# Altium schematic symbol library R.SchLib: 50 symbols
Pins are listed as number, name and electrical type; pins without a type are passive.

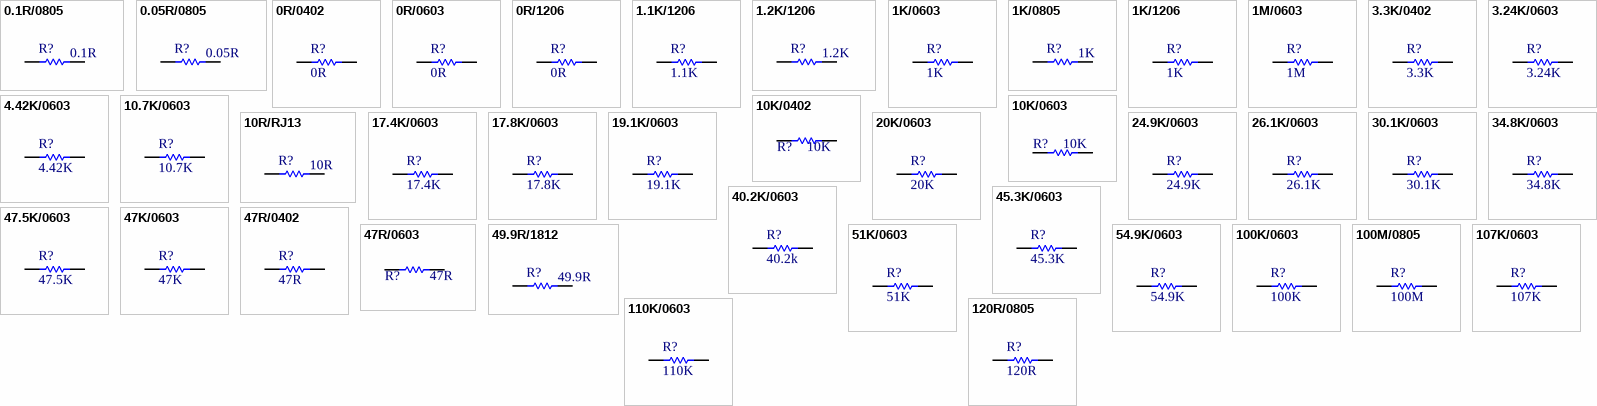
[diagram p0: symbols 0.1R/0805 to 120R/0805]

## 0.1R/0805
designator R?, comment 0.1R
阻值（欧姆） 0.1Ω / 精度 ±1% / 功率 1/3W / 温度系数 ±100ppm/°C; Manufacturer: UNI-ROYAL(厚声); A_Manufacturer: 718; Code: HP05W3F100LT5E; CompType: Resistor; A_ComType: RM型片式膜固定电阻器; DistributorCode: C270842; Package: 0805; A_Code: -
footprint S0805R
pins: 1, 2

## 0.05R/0805
designator R?, comment 0.05R
阻值（欧姆） 0.05Ω / 精度 ±1% / 功率 1/4W / 温度系数 ±400ppm/°C; Manufacturer: UNI-ROYAL(厚声); A_Manufacturer: 718; Code: CS05W4F500MT5E; CompType: Resistor; A_ComType: RM型片式膜固定电阻器; DistributorCode: C270863; Package: 0805; A_Code: -
footprint S0805R
pins: 1, 2

## 0R/0402
designator R?, comment 0R
精度 ±1% / 功率 1/16W C / 阻值 0Ω; Manufacturer: FH(风华); A_Manufacturer: 718; Code: RC-02000FT; A_Code: J-RM1005(0402)-K-B-0R-F; CompType: Resistor; A_ComType: RM型片式膜固定电阻器; DistributorCode: C140225; Package: 0402
footprint S0402R
pins: 1, 2

## 0R/0603
designator R?, comment 0R
精度 ±1% / 阻值 0Ω / 功率 0.1W; Manufacturer: FH(风华); A_Manufacturer: 718; Code: RS-03000FT; A_Code: J-RM1608(0603)-K-B-0R-F; CompType: Resistor; A_ComType: RM型片式膜固定电阻器; DistributorCode: C136582; Package: 0603
footprint S0603R (Footprint not found)
pins: 1, 2

## 0R/1206
designator R?, comment 0R
功率 0.25W / 精度 ±1% / 温度系数 ±100ppm/℃ / 阻值 1.1kΩ; Manufacturer: FH(风华); A_Manufacturer: 718; Code: RS-06000FT; A_Code: J-RM3216(1206)-K-B-0R-F; CompType: Resistor; A_ComType: RM型片式膜固定电阻器; DistributorCode: C140060; Package: 1206
footprint S0603R (Footprint not found)
footprint S1206R (1206 from SM-752 data)
pins: 1, 2

## 1.1K/1206
designator R?, comment 1.1K
功率 0.25W / 精度 ±1% / 温度系数 ±100ppm/℃ / 阻值 1.1kΩ; Manufacturer: FH(风华); A_Manufacturer: 718; Code: RS-06K1101FT; A_Code: J-RM3216(1206)-K-B-1.1K-F; CompType: Resistor; A_ComType: RM型片式膜固定电阻器; DistributorCode: C322820; Package: 1206
footprint S0603R (Footprint not found)
footprint S1206R (1206 from SM-752 data)
pins: 1, 2

## 1.2K/1206
designator R?, comment 1.2K
功率 0.25W / 精度 ±1% / 温度系数 ±100ppm/℃; Manufacturer: FH(风华); A_Manufacturer: 718; Code: RS-06K1201FT; A_Code: J-RM3216(1206)-K-B-1.2K-F; CompType: Resistor; A_ComType: RM型片式膜固定电阻器; DistributorCode: C88612; Package: 1206
footprint S0603R (Footprint not found)
footprint S1206R (1206 from SM-752 data)
pins: 1, 2

## 1K/0603
designator R?, comment 1K
精度 ±1% / 温度系数 ±100ppm/℃ / 阻值 1kΩ / 功率 0.1W; Manufacturer: FH(风华); A_Manufacturer: 718; Code: RS-03K1001FT; A_Code: J-RM1608(0603)-K-B-1K-F; CompType: Resistor; A_ComType: RM型片式膜固定电阻器; DistributorCode: C115325; Package: 0603
footprint S0603R
pins: 1, 2

## 1K/0805
designator R?, comment 1K
精度 ±1% / 温度系数 ±100ppm/℃ / 阻值 1kΩ / 功率 0.125W; Manufacturer: FH(风华); A_Manufacturer: 718; Code: RS-05K1001FT; A_Code: J-RM2012(0805)-K-B-1K-F; CompType: Resistor; A_ComType: RM型片式膜固定电阻器; DistributorCode: C115316; Package: 0805
footprint S0805R
pins: 1, 2

## 1K/1206
designator R?, comment 1K
功率 0.25W / 精度 ±1% / 温度系数 ±100ppm/℃ / 阻值 1kΩ; Manufacturer: FH(风华); A_Manufacturer: 718; Code: RS-06K1001FT; A_Code: J-RM3216(1206)-K-B-1K-F; CompType: Resistor; A_ComType: RM型片式膜固定电阻器; DistributorCode: C167634; Package: 1206
footprint S1206R (1206 from SM-752 data)
pins: 1, 2

## 1M/0603
designator R?, comment 1M
阻值 1MΩ / 精度 ±1% / 温度系数 ±100ppm/℃ / 功率 0.1W /; Manufacturer: FH(风华); A_Manufacturer: 718; Code: RS-03K1004FT; A_Code: J-RM1608(0603)-K-B-1M-F; CompType: Resistor; A_ComType: RM型片式膜固定电阻器; DistributorCode: C136593; Package: 0603
footprint S0603R
pins: 1, 2

## 3.3K/0402
designator R?, comment 3.3K
阻值 3.3kΩ / 精度 ±1% / 温度系数 ±200ppm/℃ / 功率 1/16W; Manufacturer: FH(风华); A_Manufacturer: 718; Code: RC-02W3301FT; A_Code: J-RM1005(0402)-K-B-3.3K-F; CompType: Resistor; A_ComType: RM型片式膜固定电阻器; DistributorCode: C310224; Package: 0402
footprint S0402R
pins: 1, 2

## 3.24K/0603
designator R?, comment 3.24K
精度 ±1% / 阻值 3.24kΩ / 温度系数 ±100ppm/℃ / 功率 0.1W; Manufacturer: FH(风华); A_Manufacturer: 718; Code: RS-03K3241FT; A_Code: J-RM1608(0603)-K-B-3.24K-F; CompType: Resistor; A_ComType: RM型片式膜固定电阻器; DistributorCode: C140102; Package: 0603
footprint S0603R
pins: 1, 2

## 4.42K/0603
designator R?, comment 4.42K
精度 ±1% / 阻值 4.42kΩ / 温度系数 ±100ppm/℃ / 功率 0.1W; Manufacturer: FH(风华); A_Manufacturer: 718; Code: RS-03K4421FT; A_Code: J-RM1608(0603)-K-B-4.42K-F; CompType: Resistor; A_ComType: RM型片式膜固定电阻器; DistributorCode: C321913; Package: 0603
footprint S0603R
pins: 1, 2

## 10.7K/0603
designator R?, comment 10.7K
精度 ±1% / 温度系数 ±100ppm/℃ / 阻值 10.7kΩ / 功率 0.1W; Manufacturer: FH(风华); A_Manufacturer: 718; Code: RS-03K1072FT; A_Code: J-RM1608(0603)-K-B-10.7K-F; CompType: Resistor; DistributorCode: C321678; Package: 0603
footprint S0603R (Footprint not found)
pins: 1, 2

## 10K/0402
designator R?, comment 10K
精度 ±1% / 温度系数 ±200ppm/℃ / 功率 1/16W / 阻值 10kΩ; Manufacturer: FH(风华); A_Manufacturer: 718; Code: RC-02W1002FT; A_Code: J-RM1005(0402)-K-B-10K-F; CompType: Resistor; A_ComType: RM型片式膜固定电阻器; DistributorCode: C258091; Package: 0402
footprint S0402R
pins: 1, 2

## 10K/0603
designator R?, comment 10K
精度 ±1% / 温度系数 ±100ppm/℃ / 阻值 10kΩ / 功率 0.1W; Manufacturer: FH(风华); A_Manufacturer: 718; Code: RS-03K1002FT; A_Code: J-RM1608(0603)-K-B-10K-F; CompType: Resistor; A_ComType: RM型片式膜固定电阻器; DistributorCode: C115324; Package: 0603
footprint S0603R
pins: 1, 2

## 10R/RJ13
designator R?, comment 10R
精度 ±1% / 温度系数 ±100ppm/℃ / 阻值 10Ω / 功率 0.167W; Manufacturer: 718; A_Code: J-RJ13-0.25W-10Ω-±1%-±100×10-6/K - SJ/T10775-2000; CompType: Resistor; A_ComType: RJ13型金属膜固定电阻器; Code: -; DistributorCode: -; Package: RJ13; A_Manufacturer: 718
footprint Axial-RJ13-1
pins: 1, 2

## 17.4K/0603
designator R?, comment 17.4K
精度 ±1% / 温度系数 ±100ppm/℃ / 阻值 17.4kΩ / 功率 0.1W; Manufacturer: FH(风华); A_Manufacturer: 718; Code: RS-03K1742FT; A_Code: J-RM1608(0603)-K-B-17.4K-F; CompType: Resistor; DistributorCode: C304711; Package: 0603
footprint S0603R (Footprint not found)
pins: 1, 2

## 17.8K/0603
designator R?, comment 17.8K
精度 ±1% / 温度系数 ±100ppm/℃ / 功率 0.1W; Manufacturer: FH(风华); A_Manufacturer: 718; Code: RS-03K1782FT; A_Code: J-RM1608(0603)-K-B-17.8K-F; CompType: Resistor; DistributorCode: C310271; Package: 0603
footprint S0603R (Footprint not found)
pins: 1, 2

## 19.1K/0603
designator R?, comment 19.1K
精度 ±1% / 阻值 19.1kΩ / 温度系数 ±100ppm/℃ / 功率 0.1W; Manufacturer: FH(风华); A_Manufacturer: 718; Code: RS-03K1912FT; A_Code: J-RM1608(0603)-K-B-19.1K-F; A_ComType: RM型片式膜固定电阻器; CompType: Resistor; DistributorCode: C321770; Package: 0603
footprint S0603R (Footprint not found)
pins: 1, 2

## 20K/0603
designator R?, comment 20K
精度 ±1% / 温度系数 ±100ppm/℃ / 阻值 20kΩ / 功率 0.1W; Manufacturer: FH(风华); A_Manufacturer: 718; Code: RS-03K2002FT; A_Code: J-RM1608(0603)-K-B-20K-F; CompType: Resistor; A_ComType: RM型片式膜固定电阻器; DistributorCode: C136589; Package: 0603
footprint S0603R (Footprint not found)
pins: 1, 2

## 24.9K/0603
designator R?, comment 24.9K
精度 ±1% / 温度系数 ±100ppm/℃ / 阻值 24.9kΩ / 功率 0.1W; Manufacturer: FH(风华); A_Manufacturer: 718; Code: RS-03K2492FT; A_Code: J-RM1608(0603)-K-B-24.9K-F; CompType: Resistor; DistributorCode: C321809; Package: 0603
footprint S0603R (Footprint not found)
pins: 1, 2

## 26.1K/0603
designator R?, comment 26.1K
精度 ±1% / 温度系数 ±100ppm/℃ / 功率 0.1W / 阻值 26.1kΩ; Manufacturer: FH(风华); A_Manufacturer: 718; Code: RS-03K2612FT; A_Code: J-RM1608(0603)-K-B-26.1K-F; CompType: Resistor; DistributorCode: C321818; Package: 0603
footprint S0603R (Footprint not found)
pins: 1, 2

## 30.1K/0603
designator R?, comment 30.1K
精度 ±1% / 温度系数 ±100ppm/℃ / 阻值 30.1kΩ / 功率 0.1W; Manufacturer: FH(风华); A_Manufacturer: 718; Code: RS-03K3012FT; A_Code: J-RM1608(0603)-K-B-30.1K-F; CompType: Resistor; A_ComType: RM型片式膜固定电阻器; DistributorCode: C321843; Package: 0603
footprint S0603R (Footprint not found)
pins: 1, 2

## 34.8K/0603
designator R?, comment 34.8K
精度 ±1% / 阻值 34.8kΩ / 温度系数 ±100ppm/℃ / 功率 0.1W; Manufacturer: FH(风华); A_Manufacturer: 718; Code: RS-03K3482FT; A_Code: J-RM1608(0603)-K-B-34.8K-F; CompType: Resistor; DistributorCode: C321868; Package: 0603
footprint S0603R (Footprint not found)
pins: 1, 2

## 40.2K/0603
designator R?, comment 40.2k
精度 ±1% / 阻值 40.2kΩ / 温度系数 ±100ppm/℃ / 功率 0.1W; Manufacturer: FH(风华); A_Manufacturer: 718; Code: RS-03K4022FT; A_Code: J-RM1608(0603)-K-B-40.2K-F; CompType: Resistor; A_ComType: RM型片式膜固定电阻器; DistributorCode: C286588; Package: 0603
footprint S0603R (Footprint not found)
pins: 1, 2

## 45.3K/0603
designator R?, comment 45.3K
精度 ±1% / 温度系数 ±100ppm/℃ / 功率 0.1W /; Manufacturer: FH(风华); A_Manufacturer: 718; Code: RS-03K4532FT; A_Code: J-RM1608(0603)-K-B-45.3K-F; CompType: Resistor; DistributorCode: C304756; Package: 0603
footprint S0603R (Footprint not found)
pins: 1, 2

## 47.5K/0603
designator R?, comment 47.5K
精度 ±1% / 阻值 47.5kΩ / 温度系数 ±100ppm/℃ / 功率 0.1W; Manufacturer: FH(风华); A_Manufacturer: 718; Code: RS-03K4752FT; A_Code: J-RM1608(0603)-K-B-47.5K-F; CompType: Resistor; A_ComType: RM型片式膜固定电阻器; DistributorCode: C321924; Package: 0603
footprint S0603R (Footprint not found)
pins: 1, 2

## 47K/0603
designator R?, comment 47K
阻值 47kΩ / 精度 ±1% / 温度系数 ±100ppm/℃ / 功率 0.1W /; Manufacturer: FH(风华); A_Manufacturer: 718; Code: RS-03K4702FT; A_Code: J-RM1608(0603)-K-B-47K-F; CompType: Resistor; A_ComType: RM型片式膜固定电阻器; DistributorCode: C136590; Package: 0603
footprint S0603R (Footprint not found)
pins: 1, 2

## 47R/0402
designator R?, comment 47R
功率 1/16W / 精度 ±1% / 温度系数 ±200ppm/℃ / 阻值 47Ω; Manufacturer: FH(风华); A_Manufacturer: 718; Code: RC-02W47R0FT; A_Code: J-RM1005(0402)-K-B-47R-F; CompType: Resistor; A_ComType: RM型片式膜固定电阻器; DistributorCode: C304619; Package: 0402
footprint S0402R1
pins: 1, 2

## 47R/0603
designator R?, comment 47R
精度 ±1% / 温度系数 ±100ppm/℃ / 阻值 47Ω / 功率 0.1W; Manufacturer: FH(风华); A_Manufacturer: 718; Code: RS-03K47R0FT; A_Code: J-RM1608(0603)-K-B-47R-F; CompType: Resistor; A_ComType: RM型片式膜固定电阻器; DistributorCode: C140087; Package: 0603
footprint S0603R (Footprint not found)
pins: 1, 2

## 49.9R/1812
designator R?, comment 49.9R
精度 ±1% / 功率 0.75W / 温度系数 ±100ppm/℃ / 阻值 49.9Ω; Manufacturer: UNI-ROYAL(厚声); A_Manufacturer: 718; Code: 181207F499JT4E; CompType: Resistor; A_ComType: RM型片式膜固定电阻器; DistributorCode: C422079; Package: 0805; A_Code: -
footprint R1812 (Chip Resistor, Body 180x120mil (4.5x3.2mm))
pins: 1, 2

## 51K/0603
designator R?, comment 51K
阻值 51kΩ / 精度 ±1% / 温度系数 ±100ppm/℃ / 功率 0.1W; Manufacturer: FH(风华); A_Manufacturer: 718; Code: RS-03K5102FT; A_Code: J-RM1608(0603)-K-B-51K-F; CompType: Resistor; A_ComType: RM型片式膜固定电阻器; DistributorCode: C95329; Package: 0603
footprint S0603R
pins: 1, 2

## 54.9K/0603
designator R?, comment 54.9K
精度 ±1% / 温度系数 ±100ppm/℃ / 功率 0.1W; Manufacturer: FH(风华); A_Manufacturer: 718; Code: RS-03K5492FT; A_Code: J-RM1608(0603)-K-B-54.9K-F; CompType: Resistor; A_ComType: RM型片式膜固定电阻器; DistributorCode: C321944; Package: 0603
footprint S0603R
pins: 1, 2

## 100K/0603
designator R?, comment 100K
精度 ±1% / 阻值 100kΩ / 温度系数 ±100ppm/℃ / 功率 0.1W; Manufacturer: FH(风华); A_Manufacturer: 718; Code: RS-03K1003FT; A_Code: J-RM1608(0603)-K-B-100K-F; CompType: Resistor; A_ComType: RM型片式膜固定电阻器; DistributorCode: C115320; Package: 0603
footprint S0603R
pins: 1, 2

## 100M/0805
designator R?, comment 100M
精度 ±1% / 温度系数 ±100ppm/℃ / 功率 0.125W; Manufacturer: UNI-ROYAL(厚声); A_Manufacturer: 718; Code: 0805W8F1006T5E; A_Code: J-RM2012(0805)-K-B-100M-F; CompType: Resistor; DistributorCode: C169373; Package: 0805
footprint S0805R
pins: 1, 2

## 107K/0603
designator R?, comment 107K
精度 ±1% / 温度系数 ±100ppm/℃ / 功率 0.1W; Manufacturer: FH(风华); A_Manufacturer: 718; Code: RS-03K1073FT; A_Code: J-RM1608(0603)-K-B-107K-F; CompType: Resistor; A_ComType: RM型片式膜固定电阻器; DistributorCode: C321679; Package: 0603
footprint S0603R (Footprint not found)
pins: 1, 2

## 110K/0603
designator R?, comment 110K
精度 ±1% / 温度系数 ±100ppm/℃ / 功率 0.1W / 阻值 110kΩ; Manufacturer: FH(风华); A_Manufacturer: 718; Code: RS-03K1103FT; A_Code: J-RM1608(0603)-K-B-110K-F; CompType: Resistor; A_ComType: RM型片式膜固定电阻器; DistributorCode: C304689; Package: 0603
footprint S0603R (Footprint not found)
pins: 1, 2

## 120R/0805
designator R?, comment 120R
精度 ±1% / 温度系数 ±100ppm/℃ / 阻值 120Ω / 功率 0.125W; Manufacturer: FH(风华); A_Manufacturer: 718; Code: RS-05K1200FT; A_Code: J-RM2012(0805)-K-B-120R-F; CompType: Resistor; A_ComType: RM型片式膜固定电阻器; DistributorCode: C139926; Package: 0805
footprint S0805R
pins: 1, 2

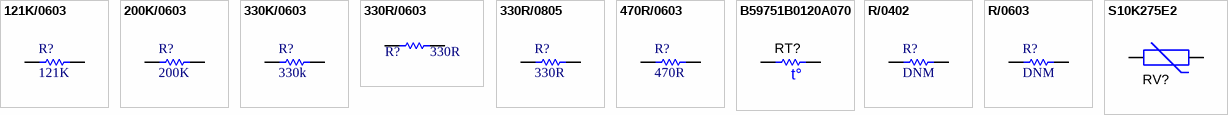
[diagram p1: symbols 121K/0603 to S10K275E2]

## 121K/0603
designator R?, comment 121K
精度 ±1% / 阻值 121kΩ / 温度系数 ±100ppm/℃ / 功率 0.1W; Manufacturer: FH(风华); A_Manufacturer: 718; Code: RS-03K1213FT; A_Code: J-RM1608(0603)-K-B-121K-F; CompType: Resistor; DistributorCode: C321700; Package: 0603
footprint S0603R (Footprint not found)
pins: 1, 2

## 200K/0603
designator R?, comment 200K
精度 ±1% / 温度系数 ±100ppm/℃ / 功率 0.1W / 阻值 200kΩ; Manufacturer: FH(风华); A_Manufacturer: 718; Code: RS-03K2003FT; A_Code: J-RM1608(0603)-K-B-200K-F; CompType: Resistor; DistributorCode: C95331; Package: 0603
footprint S0603R (Footprint not found)
pins: 1, 2

## 330K/0603
designator R?, comment 330k
精度 ±1% / 温度系数 ±100ppm/℃ / 功率 0.1W; Manufacturer: FH(风华); A_Manufacturer: 718; Code: RS-03K3303FT; A_Code: J-RM1608(0603)-K-B-330K-F; CompType: Resistor; DistributorCode: C286584; Package: 0603
footprint S0603R (Footprint not found)
pins: 1, 2

## 330R/0603
designator R?, comment 330R
精度 ±1% / 温度系数 ±100ppm/℃ / 阻值 330Ω / 功率 0.1W; Manufacturer: FH(风华); A_Manufacturer: 718; Code: RS-03K3300FT; A_Code: J-RM1608(0603)-K-B-330R-F; CompType: Resistor; A_ComType: RM型片式膜固定电阻器; DistributorCode: C125768; Package: 0603
footprint S0603R (Footprint not found)
pins: 1, 2

## 330R/0805
designator R?, comment 330R
精度 ±1% / 温度系数 ±100ppm/℃ / 功率 0.125W; Manufacturer: FH(风华); A_Manufacturer: 718; A_Code: J-RM2012(0805)-K-B-330R-F; CompType: Resistor; A_ComType: RM型片式膜固定电阻器; Code: RS-05K3300FT; DistributorCode: C154442; Package: 0805
footprint S0805R
pins: 1, 2

## 470R/0603
designator R?, comment 470R
精度 ±1% / 温度系数 ±100ppm/℃ / 功率 0.1W; Manufacturer: FH(风华); A_Manufacturer: 718; Code: RS-03K4700FT; A_Code: J-RM1608(0603)-K-B-470R-F; CompType: Resistor; A_ComType: RM型片式膜固定电阻器; DistributorCode: C116694; Package: 0603
footprint S0603R (Footprint not found)
pins: 1, 2

## B59751B0120A070
designator RT?, comment B59751C0120A070  (value not drawn)
Thermistor NTC, 50 ohm, 25%, D13xH18mm; Manufacturer: TDK; Value: 50; Tolerance_%: 25; TaMin_C: -40; TaMax_C: 125; U/M: EA; CompType: ThermistorNTC; SymbolVersion: 2008-11-25; PartNumber: B59751C0120A070; Series: B597; PackageReference: D13xH18mm; MountType: TH; RoHS: Y; ComponentLink1Description: Datasheet link; ComponentLink1URL: https://www.tdk-electronics.tdk.com/inf/55/db/PTC/PTC_ICL_OC_Leaded_260V_1000V.pdf; Published: 2009-09-22; Publisher: Texas Instruments; LatestRevisionDate: 2015-09-01; Supplier 1: Digi-Key; Supplier Part Number 1: 495-7219-ND; Supplier 2: Mouser; Supplier Part Number 2: 871-B59751C0120A070; Supplier 3: Farnell; Supplier Part Number 3: 2112820
footprint TDK_B751
pins: 1, 2
text: t°

## R/0402
designator R?, comment DNM
Manufacturer: FH(风华); A_Manufacturer: 718; CompType: Resistor; A_ComType: RM型片式膜固定电阻器; Code: -; DistributorCode: -; Package: 0402; A_Code: -
footprint S0402R
pins: 1, 2

## R/0603
designator R?, comment DNM
Manufacturer: FH(风华); A_Manufacturer: 718; CompType: Resistor; A_ComType: RM型片式膜固定电阻器; Code: -; DistributorCode: -; Package: 0603; A_Code: -
footprint S0603R
pins: 1, 2

## S10K275E2
designator RV?  (value not drawn)
Varistor 275V RMS 10MM Radial, TH; Manufacturer: EPCOS Inc; SymbolCreator: a0412235; SymbolVersion: 2012-06-04; PartNumber: S10K275E2; MountType: TH; ComponentLink1Description: Datasheet URL; ComponentLink1URL: http://www.epcos.com/inf/70/db/var_08/SIOV_Leaded_AdvanceD.pdf; RoHS: Y; PackageReference: 10mm Radial; Publisher: Texas Instruments; LatestRevisionDate: 2013-02-24; Supplier 1: Digi-Key; Supplier Part Number 1: 495-1433-ND
footprint VAR_S10K275E2
pins: 1, 2